# Altium footprint library SOP9P65_300X490X110L60X30T180X150N.PcbLib: 1 footprints
Each footprint in its own frame and in the unit in brackets; x right, y up, seen from the top. Pads: shape width x height; smd on the part's side, far side on the other; paste and mask are expansions set on the pad; w line width, h text height; cw(c..) or ccw(c..) is an arc to the next point about the centre after c.
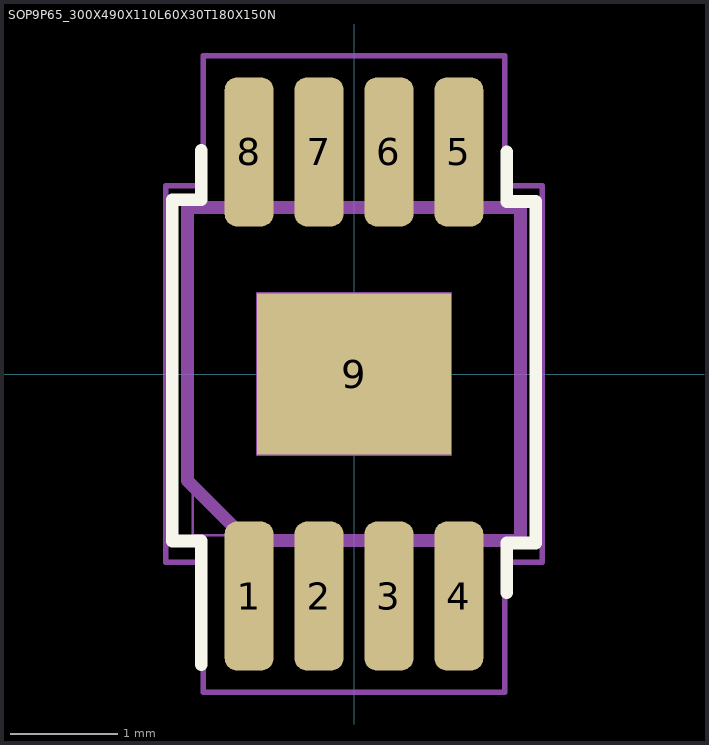
[diagram p0: the footprint, top view; thin cyan lines are the x and y axes]

## SOP9P65_300X490X110L60X30T180X150N [mm] "Small Outline Pkg (SOIC, SOP) with Thermal Tab, 0.65 mm pitch; 8 pin, 3.00 mm L X 3.00 mm W X 1.10 mm H Body"
height 1.1
pads (9):
  rrect50% 0.455x1.385 smd: 1(-0.975,-2.065) 2(-0.325,-2.065) 3(0.325,-2.065) 4(0.975,-2.065) 5(0.975,2.065) 6(0.325,2.065) 7(-0.325,2.065) 8(-0.975,2.065)
  rect 1.8x1.5 smd paste-1.8: 9(0,0)
Top Overlay:
  lines w0.12: -1.42,-2.7 -1.42,-1.552 -1.69,-1.552 -1.69,1.62 -1.42,1.62 -1.42,2.08 ; 1.42,-2.03 1.42,-1.57 1.69,-1.57 1.69,1.602 1.42,1.602 1.42,2.062
Top Paste:
  region: 0.79,-0.64 0.11,-0.64 0.11,-0.11 0.79,-0.11
  region: 0.79,0.11 0.11,0.11 0.11,0.64 0.79,0.64
  region: -0.11,-0.64 -0.79,-0.64 -0.79,-0.11 -0.11,-0.11
  region: -0.11,0.11 -0.79,0.11 -0.79,0.64 -0.11,0.64
Mechanical 3:
  lines w0.12: -1.55,-0.99 -0.99,-1.55 1.55,-1.55 1.55,1.55 -1.55,1.55 -1.55,-0.99
Mechanical 5:
  lines w0.025: -1.5,-1.5 -1.5,1.5 1.5,1.5 1.5,-1.5 -1.5,-1.5 ; -1.125,-2.45 -0.825,-2.45 -0.825,-1.85 -1.125,-1.85 -1.125,-2.45 ; -1.125,1.85 -0.825,1.85 -0.825,2.45 -1.125,2.45 -1.125,1.85 ; -0.9,-0.75 0.9,-0.75 0.9,0.75 -0.9,0.75 -0.9,-0.75 ; -0.475,-2.45 -0.175,-2.45 -0.175,-1.85 -0.475,-1.85 -0.475,-2.45 ; -0.475,1.85 -0.175,1.85 -0.175,2.45 -0.475,2.45 -0.475,1.85 ; 0.175,-2.45 0.475,-2.45 0.475,-1.85 0.175,-1.85 0.175,-2.45 ; 0.175,1.85 0.475,1.85 0.475,2.45 0.175,2.45 0.175,1.85 ; 0.825,-2.45 1.125,-2.45 1.125,-1.85 0.825,-1.85 0.825,-2.45 ; 0.825,1.85 1.125,1.85 1.125,2.45 0.825,2.45 0.825,1.85
Mechanical 7:
  circle w0.05: c0,0 r0.25
  lines w0.05: -0.35,0 0.35,0 ; 0,-0.35 0,0.35 ; -1.75,-1.75 -1.75,1.75 -1.403,1.75 -1.403,2.958 1.403,2.958 1.403,1.75 1.75,1.75 1.75,-1.75 1.403,-1.75 1.403,-2.958 -1.403,-2.958 -1.403,-1.75 -1.75,-1.75
Mechanical 9:
  text "'.Designator'" at -5.817,-0.398 h1.02
3D body "SOP9P65_300X490X110L60X30T180X150.STEP": height 1.1, standoff 0, extent -1.5,-2.45 1.5,2.45
3D body: height 1.1, standoff 0, extent -1.75,-2.958 1.75,2.958